# EAGLE library part LORA_RA-02_MODULE (library LORA_RA-02_MODULE)
LoRa Ra-02 module for pin socket.
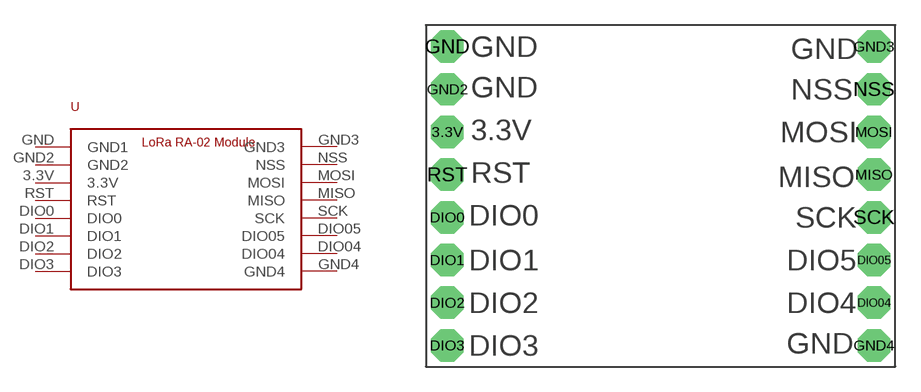
[diagram p0: symbol with the pads of LORA_RA-02_MODULE_FOOTPRINT; footprint LORA_RA-02_MODULE_FOOTPRINT]

Designator prefix -

## LORA_RA-02_MODULE  [LORA_RA-02_MODULE_FOOTPRINT]
3.3V  3.3V
DIO0  DIO0
DIO1  DIO1
DIO2  DIO2
DIO3  DIO3
DIO04  DIO04
DIO05  DIO05
GND  GND1
GND2  GND2
GND3  GND3
GND4  GND4
MISO  MISO
MOSI  MOSI
NSS  NSS
RST  RST
SCK  SCK

## Footprint LORA_RA-02_MODULE_FOOTPRINT (pad centres in mm)
drill 1.016 pad 1.93 octagon: 3.3V -12.7,3.81; DIO0 -12.7,-1.27; DIO1 -12.7,-3.81; DIO2 -12.7,-6.35; DIO3 -12.7,-8.89; DIO04 12.7,-6.35; DIO05 12.7,-3.81; GND -12.7,8.89; GND2 -12.7,6.35; GND3 12.7,8.89; GND4 12.7,-8.89; MISO 12.7,1.27; MOSI 12.7,3.81; NSS 12.7,6.35; RST -12.7,1.27; SCK 12.7,-1.27